# EAGLE library part 4RESARRAY (library 445-eagle-lib)
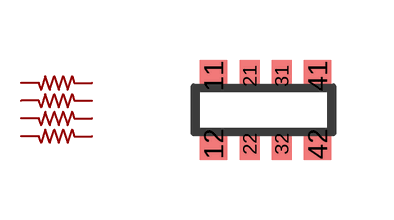
[diagram p8: symbol with the pads of 164PRESARRAY; footprint 164PRESARRAY]

Designator prefix -

## 4RESARRAY  [164PRESARRAY]
11  12
12  11
21  22
22  21
31  32
32  31
41  42
42  41

## Footprint 164PRESARRAY (pad centres in mm)
smd 0.7 x 0.8: 11 -1.3,0.85; 12 -1.3,-0.85; 41 1.3,0.85; 42 1.3,-0.85
smd 0.5 x 0.8: 21 -0.4,0.85; 22 -0.4,-0.85; 31 0.4,0.85; 32 0.4,-0.85